# EAGLE library part SPARKFUN_USD-SOCKET (library FoneAstra)
microSD Socket Push-push type uSD socket. Schematic element and footprint production proven. Spark Fun Electronics SKU : PRT-00127. tDoc lines correctly indicate media card edge positions when inserting (unlocked, locked, depressed).
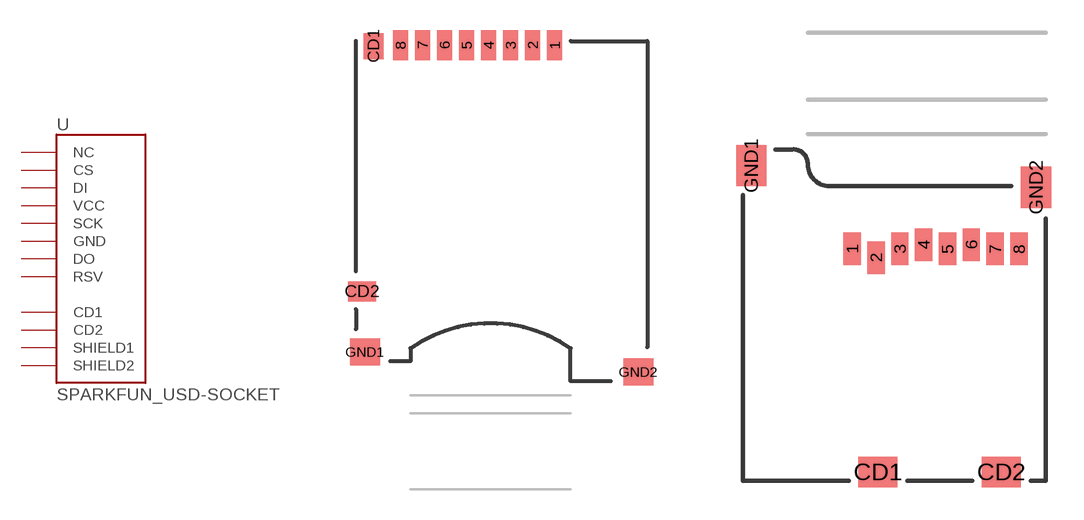
[diagram p3: symbol with the pads of SPARKFUN_USD-SOCKET-PP; footprints SPARKFUN_USD-SOCKET-PP, SPARKFUN_MICRO-SD-SOCKET-PP]

Designator prefix U

## SPARKFUN_USD-SOCKETDISCONTINUED  [SPARKFUN_USD-SOCKET-PP]

## SPARKFUN_USD-SOCKETSMD  [SPARKFUN_MICRO-SD-SOCKET-PP]
1  NC
2  CS
3  DI
4  VCC
5  SCK
6  GND
7  DO
8  RSV
CD1  CD1
CD2  CD2
GND1  SHIELD1
GND2  SHIELD2

## Footprint SPARKFUN_USD-SOCKET-PP (pad centres in mm)
smd 0.75 x 1.5: 1 3.2,16.8; 2 2.1,16.8; 3 1,16.8; 4 -0.1,16.8; 5 -1.2,16.8; 6 -2.3,16.8; 7 -3.4,16.8; 8 -4.5,16.8
smd 1 x 1.3: CD1 -5.85,16.75
smd 1.4 x 1: CD2 -6.425,4.5
smd 1.5 x 1.35: GND1 -6.275,1.475; GND2 7.375,0.475

## Footprint SPARKFUN_MICRO-SD-SOCKET-PP (pad centres in mm)
smd 0.8 x 1.5: 1 -1.94,4.5; 2 -0.84,4.1; 3 0.26,4.5; 4 1.36,4.7; 5 2.46,4.5; 6 3.56,4.7; 7 4.66,4.5; 8 5.76,4.5
smd 1.8 x 1.4: CD1 -0.75,-5.8; CD2 4.95,-5.8
smd 1.4 x 1.9: GND1 -6.6,8.35; GND2 6.55,7.35